# EAGLE library part ATMEGAXXX4RFR2 (library lib_stankus)
Atmel ATMEGAXXX4RFR2 MCU
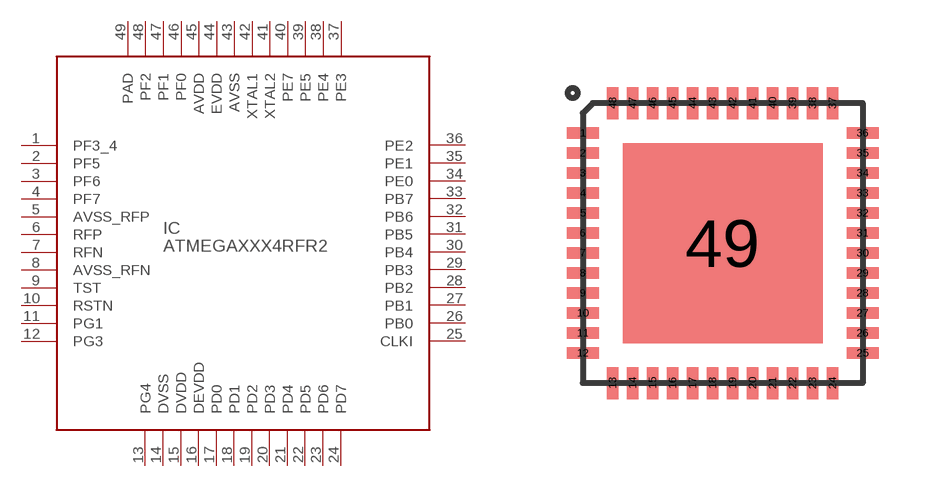
[diagram p76: symbol with the pads of QFN48_7_05; footprint QFN48_7_05]

Designator prefix IC

## ATMEGAXXX4RFR2-QFN48  [QFN48_7_05]
1  PF3_4  pas
2  PF5  pas
3  PF6  pas
4  PF7  pas
5  AVSS_RFP  pas
6  RFP  pas
7  RFN  pas
8  AVSS_RFN  pas
9  TST  pas
10  RSTN  pas
11  PG1  pas
12  PG3  pas
13  PG4  pas
14  DVSS  pas
15  DVDD  pas
16  DEVDD  pas
17  PD0  pas
18  PD1  pas
19  PD2  pas
20  PD3  pas
21  PD4  pas
22  PD5  pas
23  PD6  pas
24  PD7  pas
25  CLKI  pas
26  PB0  pas
27  PB1  pas
28  PB2  pas
29  PB3  pas
30  PB4  pas
31  PB5  pas
32  PB6  pas
33  PB7  pas
34  PE0  pas
35  PE1  pas
36  PE2  pas
37  PE3  pas
38  PE4  pas
39  PE5  pas
40  PE7  pas
41  XTAL2  pas
42  XTAL1  pas
43  AVSS  pas
44  EVDD  pas
45  AVDD  pas
46  PF0  pas
47  PF1  pas
48  PF2  pas
49  PAD  pas

## Footprint QFN48_7_05 (pad centres in mm)
QFN48, 7x7 MM, 0.5 MM
smd 0.8 x 0.28: 1 -3.5,2.75; 2 -3.5,2.25; 3 -3.5,1.75; 4 -3.5,1.25; 5 -3.5,0.75; 6 -3.5,0.25; 7 -3.5,-0.25; 8 -3.5,-0.75; 9 -3.5,-1.25; 10 -3.5,-1.75; 11 -3.5,-2.25; 12 -3.5,-2.75; 25 3.5,-2.75; 26 3.5,-2.25; 27 3.5,-1.75; 28 3.5,-1.25; 29 3.5,-0.75; 30 3.5,-0.25; 31 3.5,0.25; 32 3.5,0.75; 33 3.5,1.25; 34 3.5,1.75; 35 3.5,2.25; 36 3.5,2.75
smd 0.28 x 0.8: 13 -2.75,-3.5; 14 -2.25,-3.5; 15 -1.75,-3.5; 16 -1.25,-3.5; 17 -0.75,-3.5; 18 -0.25,-3.5; 19 0.25,-3.5; 20 0.75,-3.5; 21 1.25,-3.5; 22 1.75,-3.5; 23 2.25,-3.5; 24 2.75,-3.5; 37 2.75,3.5; 38 2.25,3.5; 39 1.75,3.5; 40 1.25,3.5; 41 0.75,3.5; 42 0.25,3.5; 43 -0.25,3.5; 44 -0.75,3.5; 45 -1.25,3.5; 46 -1.75,3.5; 47 -2.25,3.5; 48 -2.75,3.5
smd 5 x 5: 49 0,0